# EAGLE library part OPT101P (library opt101p)
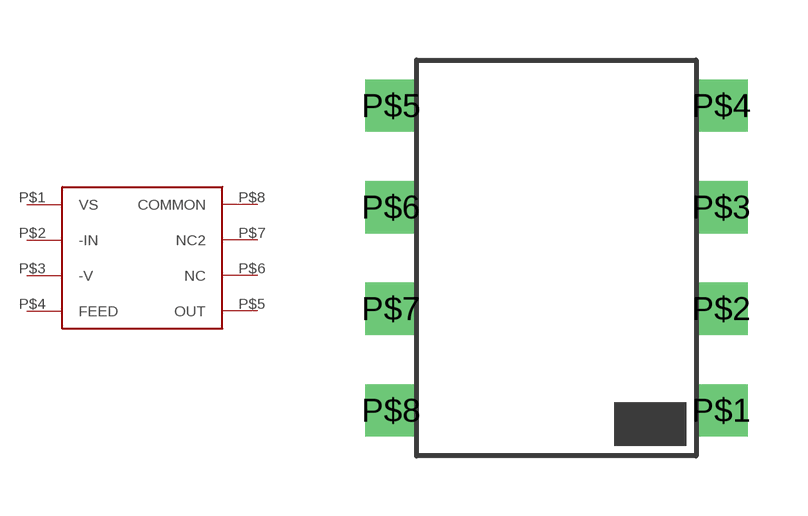
[diagram p0: symbol with the pads of OPT101P; footprint OPT101P]

Designator prefix -

## OPT101P  [OPT101P]
P$1  VS
P$2  -IN
P$3  -V
P$4  FEED
P$5  OUT
P$6  NC
P$7  NC2
P$8  COMMON

## Footprint OPT101P (pad centres in mm)
drill 0.8 square: P$1 7.625,1.14; P$2 7.625,3.685; P$3 7.625,6.225; P$4 7.625,8.765; P$5 -0.635,8.765; P$6 -0.635,6.225; P$7 -0.635,3.685; P$8 -0.635,1.14